# EAGLE library part CONNECTOR (library NFR23_v1.1)
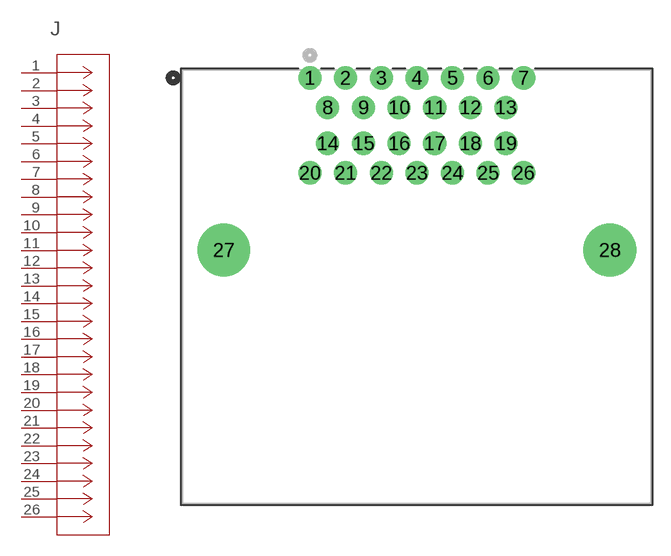
[diagram p4: symbol with the pads of CONN26_9-6437287-8_TEC; footprint CONN26_9-6437287-8_TEC]

Designator prefix J

## CONNECTOR (COPYRIGHT: Copyright (C) 2022 Ultra Librarian. All rights reserved.; DIGI-KEY_PART_NUMBER_1: A126097-ND; MANUFACTURER_PART_NUMBER: 9-6437287-8; MFR_NAME: TE Connectivity; TYPE: -)  [CONN26_9-6437287-8_TEC]
1  1  pas
2  2  pas
3  3  pas
4  4  pas
5  5  pas
6  6  pas
7  7  pas
8  8  pas
9  9  pas
10  10  pas
11  11  pas
12  12  pas
13  13  pas
14  14  pas
15  15  pas
16  16  pas
17  17  pas
18  18  pas
19  19  pas
20  20  pas
21  21  pas
22  22  pas
23  23  pas
24  24  pas
25  25  pas
26  26  pas

## Footprint CONN26_9-6437287-8_TEC (pad centres in mm)
drill 1.295 pad 1.803: 1 -18.009,8.001; 2 -15.011,8.001; 3 -11.989,8.001; 4 -8.992,8.001; 5 -5.994,8.001; 6 -2.997,8.001; 7 0,8.001; 8 -16.51,5.512; 9 -13.487,5.512; 10 -10.49,5.512; 11 -7.493,5.512; 12 -4.496,5.512; 13 -1.499,5.512; 14 -16.51,2.489; 15 -13.487,2.489; 16 -10.49,2.489; 17 -7.493,2.489; 18 -4.496,2.489; 19 -1.499,2.489; 20 -18.009,0; 21 -15.011,0; 22 -11.989,0; 23 -8.992,0; 24 -5.994,0; 25 -2.997,0; 26 0,0
drill 3.429 pad 3.429: 27 -25.248,-6.502; 28 7.264,-6.502